# Altium footprint library LED.PCBLIB: 68 footprints (part 4 of 5)
Each footprint in its own frame and in the unit in brackets; x right, y up, seen from the top. Pads: shape width x height; smd on the part's side, far side on the other; paste and mask are expansions set on the pad; w line width, h text height; cw(c..) or ccw(c..) is an arc to the next point about the centre after c.
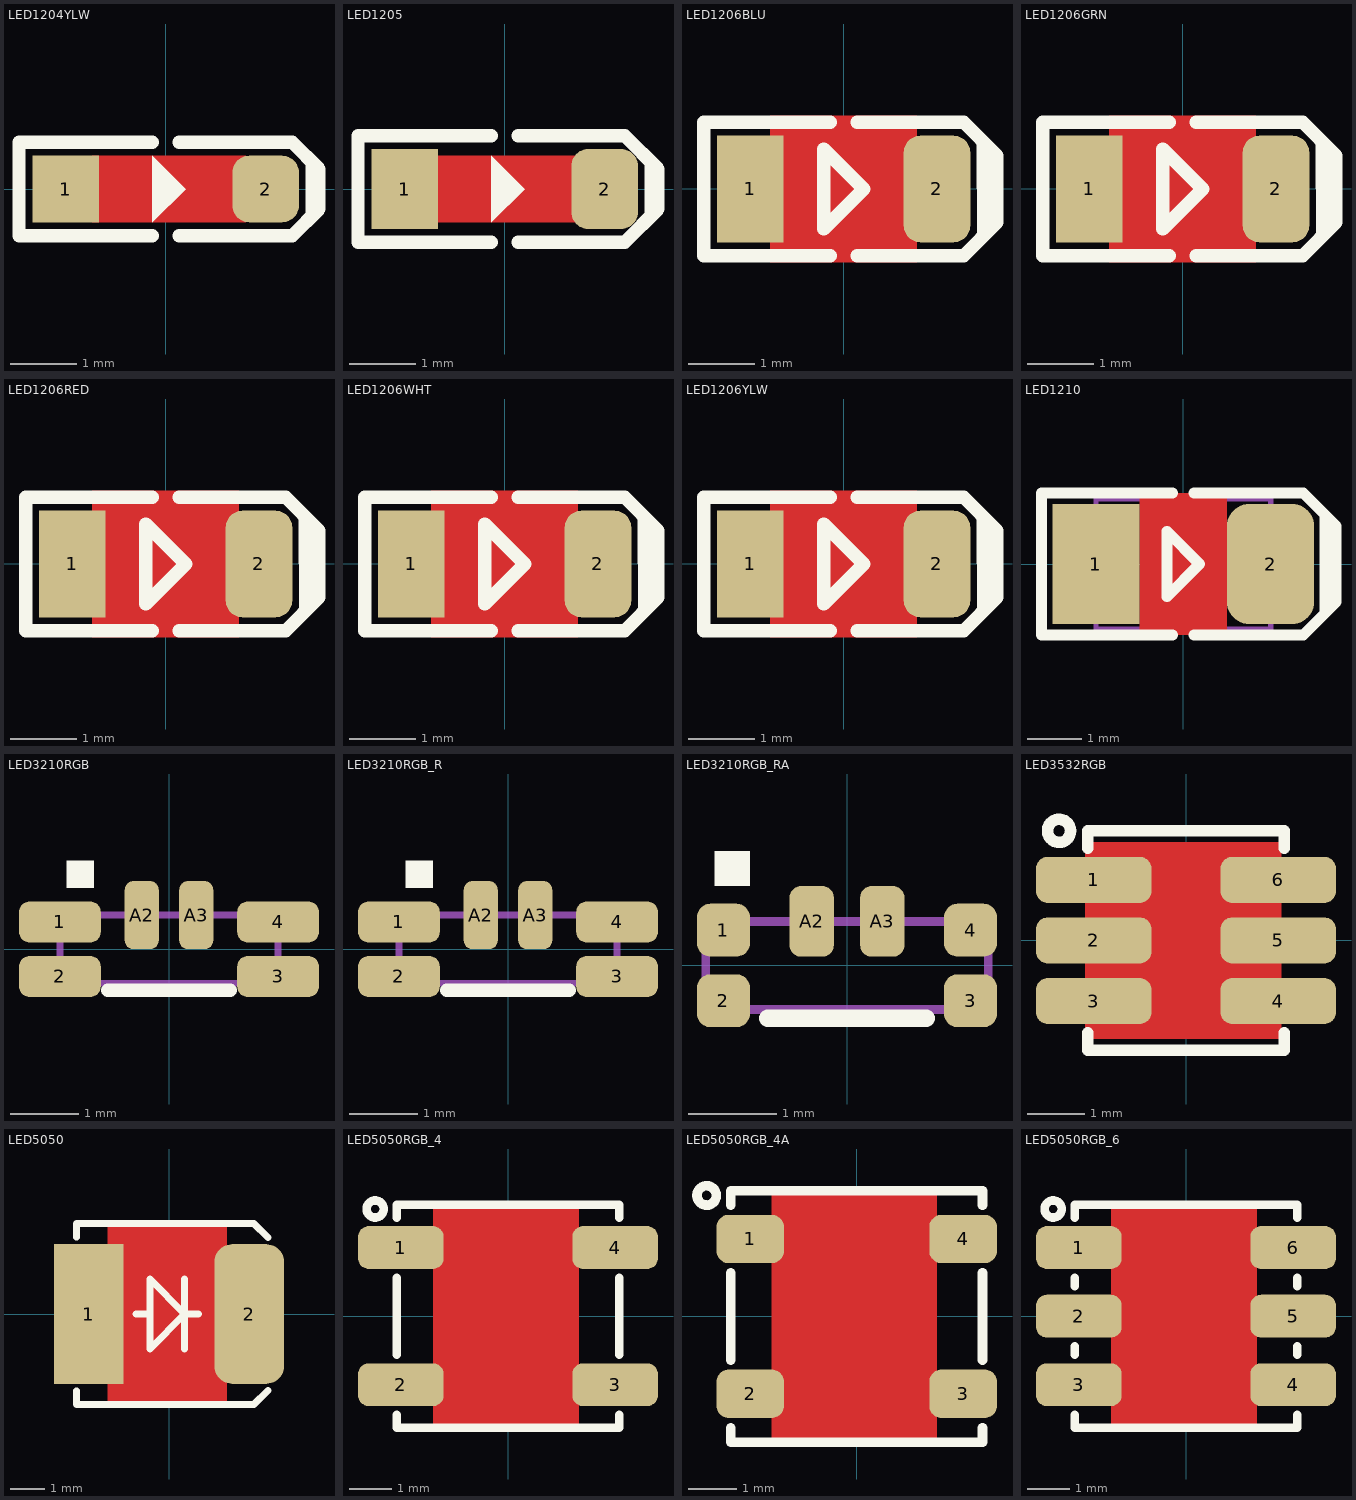
[diagram p3: the footprints below, top view; thin cyan lines are the x and y axes]

## LED1204YLW [mm] "LED, 1204, YELLOW, 3.0X1.0X1.9mm"
pads (2):
  rect 1x1 smd mask+0.075: 1(-1.5,0)
  rrect50% 1x1 smd mask+0.075: 2(1.5,0)
TopLayer:
  pour cut-out: -1.1,0.5 -1.1,-0.5 1.2,-0.5 1.2,0.5
TopOverlay:
  region: 2.1,0.6 2.1,-0.6 2.3,-0.4 2.3,0.4
  region: -0.2,0.5 0.3,0 -0.2,-0.5
  lines w0.2: -0.2,-0.7 -2.2,-0.7 -2.2,0.7 -0.2,0.7 ; 0.2,-0.7 1.9,-0.7 2.3,-0.3 2.3,0.3 1.9,0.7 0.2,0.7
3D body: height 1.9, standoff 0.9, extent -1,-0.5 1,0.5
3D body: height 0.9, standoff 0, extent -1.1,-0.5 1.1,0.5
3D body: height 0.9, standoff 0, extent -1.5,-0.5 -1.1,0.5
3D body: height 0.9, standoff 0, extent 1.1,-0.5 1.5,0.5

## LED1205 [mm] "LED, 1205, YELLOW, 3.2X1.2X1.1mm"
height 1.1
pads (2):
  rect 1x1.2 smd mask+0.075: 1(-1.5,0)
  rrect50% 1x1.2 smd mask+0.075: 2(1.5,0)
TopLayer:
  pour cut-out: -1.1,0.5 -1.1,-0.5 1.2,-0.5 1.2,0.5
TopOverlay:
  region: -0.2,0.5 0.3,0 -0.2,-0.5
  region: 2.1,0.6 2.1,-0.6 2.3,-0.4 2.3,0.4
  lines w0.2: -0.2,-0.8 -2.2,-0.8 -2.2,0.8 -0.2,0.8 ; 0.2,-0.8 1.8,-0.8 2.3,-0.3 2.3,0.3 1.8,0.8 0.2,0.8
3D body "WL-SMRD-1205 (rev1).stp": height 1.1, standoff 0, extent -1.6,-0.6 1.6,0.6

## LED1206BLU [mm] "LED, 1206, BLUE"
pads (2):
  rect 1x1.6 smd paste-0.2 mask+0.075: 1(-1.4,0)
  rrect50% 1x1.6 smd paste-0.2 mask+0.075: 2(1.4,0)
TopLayer:
  pour cut-out: -1.1,1.1 -1.1,-1.1 1.1,-1.1 1.1,1.1
TopOverlay:
  region: 2,0.7 2,-0.7 2.3,-0.4 2.3,0.4
  lines w0.2: -0.2,-1 -2.1,-1 -2.1,1 -0.2,1 ; 0.2,-1 1.8,-1 2.3,-0.5 2.3,0.5 1.8,1 0.2,1 ; -0.3,-0.6 0.3,0 -0.3,0.6 -0.3,-0.6
3D body "User Library-Wurth Elektronik WL-SMCW 1206 (3216) LED Lens (Separate Body).step": height 0.68, standoff 0.28, extent -1,-0.8 1,0.8
3D body "User Library-Wurth Elektronik WL-SMCW 1206 (3216) LED Base (Separate Lens).step": height 0.62, standoff 0, extent -1.6,-0.8 1.6,0.8

## LED1206GRN [mm] "LED, 1206, GREEN"
pads (2):
  rect 1x1.6 smd paste-0.2 mask+0.075: 1(-1.4,0)
  rrect50% 1x1.6 smd paste-0.2 mask+0.075: 2(1.4,0)
TopLayer:
  pour cut-out: -1.1,1.1 -1.1,-1.1 1.1,-1.1 1.1,1.1
TopOverlay:
  region: 2,0.7 2,-0.7 2.3,-0.4 2.3,0.4
  lines w0.2: -0.2,-1 -2.1,-1 -2.1,1 -0.2,1 ; 0.2,-1 1.8,-1 2.3,-0.5 2.3,0.5 1.8,1 0.2,1 ; -0.3,-0.6 0.3,0 -0.3,0.6 -0.3,-0.6
3D body "User Library-Wurth Elektronik WL-SMCW 1206 (3216) LED Lens (Separate Body).step": height 0.68, standoff 0.28, extent -1,-0.8 1,0.8
3D body "User Library-Wurth Elektronik WL-SMCW 1206 (3216) LED Base (Separate Lens).step": height 0.62, standoff 0, extent -1.6,-0.8 1.6,0.8

## LED1206RED [mm] "LED, 1206, RED"
pads (2):
  rect 1x1.6 smd paste-0.2 mask+0.075: 1(-1.4,0)
  rrect50% 1x1.6 smd paste-0.2 mask+0.075: 2(1.4,0)
TopLayer:
  pour cut-out: -1.1,1.1 -1.1,-1.1 1.1,-1.1 1.1,1.1
TopOverlay:
  region: 2,0.7 2,-0.7 2.3,-0.4 2.3,0.4
  lines w0.2: -0.2,-1 -2.1,-1 -2.1,1 -0.2,1 ; 0.2,-1 1.8,-1 2.3,-0.5 2.3,0.5 1.8,1 0.2,1 ; -0.3,-0.6 -0.3,0.6 0.3,0 -0.3,-0.6
3D body "User Library-Wurth Elektronik WL-SMCW 1206 (3216) LED Base (Separate Lens).step": height 0.62, standoff 0, extent -1.6,-0.8 1.6,0.8
3D body "User Library-Wurth Elektronik WL-SMCW 1206 (3216) LED Lens (Separate Body).step": height 0.68, standoff 0.28, extent -1,-0.8 1,0.8

## LED1206WHT [mm] "LED, 1206, WHITE"
pads (2):
  rect 1x1.6 smd paste-0.2 mask+0.075: 1(-1.4,0)
  rrect50% 1x1.6 smd paste-0.2 mask+0.075: 2(1.4,0)
TopLayer:
  pour cut-out: -1.1,1.1 -1.1,-1.1 1.1,-1.1 1.1,1.1
TopOverlay:
  region: 2,0.7 2,-0.7 2.3,-0.4 2.3,0.4
  lines w0.2: -0.2,-1 -2.1,-1 -2.1,1 -0.2,1 ; 0.2,-1 1.8,-1 2.3,-0.5 2.3,0.5 1.8,1 0.2,1 ; -0.3,-0.6 -0.3,0.6 0.3,0 -0.3,-0.6
3D body "User Library-Wurth Elektronik WL-SMCW 1206 (3216) LED Base (Separate Lens).step": height 0.62, standoff 0, extent -1.6,-0.8 1.6,0.8
3D body "User Library-Wurth Elektronik WL-SMCW 1206 (3216) LED Lens (Separate Body).step": height 0.68, standoff 0.28, extent -1,-0.8 1,0.8

## LED1206YLW [mm] "LED, 1206, YELLOW"
pads (2):
  rect 1x1.6 smd paste-0.2 mask+0.075: 1(-1.4,0)
  rrect50% 1x1.6 smd paste-0.2 mask+0.075: 2(1.4,0)
TopLayer:
  pour cut-out: -1.1,1.1 -1.1,-1.1 1.1,-1.1 1.1,1.1
TopOverlay:
  region: 2,0.7 2,-0.7 2.3,-0.4 2.3,0.4
  lines w0.2: -0.2,-1 -2.1,-1 -2.1,1 -0.2,1 ; 0.2,-1 1.8,-1 2.3,-0.5 2.3,0.5 1.8,1 0.2,1 ; -0.3,-0.6 0.3,0 -0.3,0.6 -0.3,-0.6
3D body "User Library-Wurth Elektronik WL-SMCW 1206 (3216) LED Lens (Separate Body).step": height 0.68, standoff 0.28, extent -1,-0.8 1,0.8
3D body "User Library-Wurth Elektronik WL-SMCW 1206 (3216) LED Base (Separate Lens).step": height 0.62, standoff 0, extent -1.6,-0.8 1.6,0.8

## LED1210 [mm] "LED, 1210, 3.2X2.5mm"
pads (2):
  rect 1.6x2.2 smd paste-0.2 mask+0.075: 1(-1.6,0)
  rrect50% 1.6x2.2 smd paste-0.2 mask+0.075: 2(1.6,0)
TopLayer:
  pour cut-out: -0.8,1.3 -0.8,-1.3 0.8,-1.3 0.8,1.3
TopOverlay:
  region: 2.5,1 2.5,-1 2.8,-0.7 2.8,0.7
  lines w0.2: -0.2,-1.3 -2.6,-1.3 -2.6,1.3 -0.2,1.3 ; 0.2,-1.3 2.2,-1.3 2.8,-0.7 2.8,0.7 2.2,1.3 0.2,1.3 ; -0.3,-0.6 -0.3,0.6 0.3,0 -0.3,-0.6
Mechanical13:
  lines w0.1: -1.6,-1.2 1.6,-1.2 1.6,1.2 -1.6,1.2 -1.6,-1.2
3D body "User Library-led_1210.step": height 1.1, standoff -0.05, extent -1.62,-1.35 1.62,1.35

## LED3210RGB [mm] "LED RGB 3.2mmX1.0mm"
height 2.8
pads (6):
  rrect50% 1.2x0.6 smd mask+0.075: 1(-1.6,0.4) 2(-1.6,-0.4) 3(1.6,-0.4) 4(1.6,0.4)
  rrect50% 0.5x1 smd mask+0.075: A2(-0.4,0.5) A3(0.4,0.5)
TopOverlay:
  rectangle: -1.5,0.9 -1.1,1.3
  lines w0.2: -0.9,-0.6 0.9,-0.6
Mechanical13:
  lines w0.1: -1.6,-0.5 1.6,-0.5 1.6,0.5 -1.6,0.5 -1.6,-0.5
3D body "LED3210.step": height 1.5, standoff -0.01, extent -1.6,-0.5 1.6,0.5

## LED3210RGB_R [mm] "LED RGB 3.2mmX1.0mm, Right Angle"
height 2.8
pads (6):
  rrect50% 1.2x0.6 smd mask+0.075: 1(-1.6,0.4) 2(-1.6,-0.4) 3(1.6,-0.4) 4(1.6,0.4)
  rrect50% 0.5x1 smd mask+0.075: A2(-0.4,0.5) A3(0.4,0.5)
TopOverlay:
  rectangle: -1.5,0.9 -1.1,1.3
  lines w0.2: -0.9,-0.6 0.9,-0.6
Mechanical13:
  lines w0.1: -1.6,-0.5 1.6,-0.5 1.6,0.5 -1.6,0.5 -1.6,-0.5
3D body "LED3210.step": height 1, standoff 0, extent -1.6,0.39 1.6,1.9

## LED3210RGB_RA [mm] "LED RGB 3.2mmX1.0mm"
height 2.8
pads (6):
  rrect50% 0.6x0.6 smd mask+0.075: 1(-1.4,0.4) 2(-1.4,-0.4) 3(1.4,-0.4) 4(1.4,0.4)
  rrect50% 0.5x0.8 smd mask+0.075: A2(-0.4,0.5) A3(0.4,0.5)
TopOverlay:
  rectangle: -1.5,0.9 -1.1,1.3
  lines w0.2: -0.9,-0.6 0.9,-0.6
Mechanical1:
  lines w0.1: -1.6,-0.5 1.6,-0.5 1.6,0.5 -1.6,0.5 -1.6,-0.5
3D body "LED3210.step": height 1, standoff 0, extent -1.6,0.39 1.6,1.9

## LED3532RGB [mm] "LED 3.5mmX3.2mm, LRTB G6SG PLLC6"
height 1.6
pads (6):
  rrect50% 2x0.8 smd mask+0.075: 1(-1.6,1.05) 2(-1.6,0) 3(-1.6,-1.05) 4(1.6,-1.05) 5(1.6,0) 6(1.6,1.05)
TopLayer:
  pour cut-out: -1.75,1.7 1.65,1.7 1.65,-1.7 -1.75,-1.7
TopOverlay:
  circle w0.2: c-2.2,1.9 r0.2
  lines w0.2: -1.7,-1.6 -1.7,-1.9 1.7,-1.9 1.7,-1.6 ; -1.7,1.6 -1.7,1.9 1.7,1.9 1.7,1.6
3D body "User Library-LED_RGB_Osram_LRTB_G6SG.step": height 2.01, standoff 0, extent -1.8,-1.75 1.8,1.75

## LED5050 [mm] "LED 5mmX5mm, PLLC6"
pads (2):
  rect 2x4 smd paste-3 mask+0.1: 1(-2.3,0)
  rrect50% 2x4 smd paste-3 mask+0.1: 2(2.3,0)
TopLayer:
  pour cut-out: -1.75,2.54 1.65,2.54 1.65,-2.54 -1.75,-2.54
TopOverlay:
  lines w0.2: -2.65,-2.2 -2.65,-2.6 2.43,-2.6 2.84,-2.19 ; -2.65,2.2 -2.65,2.6 2.43,2.6 2.84,2.19 ; -0.95,0 -0.55,0 ; 0.45,-1 0.45,1 ; 0.85,0 0.45,0 ; 0.45,0 -0.55,1 -0.55,-1 0.45,0
TopPaste:
  region: 3.1,1.8 1.5,1.8 1.5,1 3.1,1
  region: 3.1,0.4 1.5,0.4 1.5,-0.4 3.1,-0.4
  region: 3.1,-1 1.5,-1 1.5,-1.8 3.1,-1.8
  rectangle: -3.1,-1.8 -1.5,-1
  rectangle: -3.1,-0.4 -1.5,0.4
  rectangle: -3.1,1 -1.5,1.8
3D body "User Library-smd_led_5050.step": height 1.6, standoff 0, extent -2.65,-2.5 2.65,2.5

## LED5050RGB_4 [mm] "LED 5mmX5mm, PLLC6"
pads (4):
  rrect50% 2x1 smd mask+0.1: 1(-2.5,1.6) 2(-2.5,-1.6) 3(2.5,-1.6) 4(2.5,1.6)
TopLayer:
  pour cut-out: -1.75,2.54 1.65,2.54 1.65,-2.54 -1.75,-2.54
TopOverlay:
  circle w0.2: c-3.1,2.5 r0.2
  lines w0.2: -2.6,-2.3 -2.6,-2.6 2.6,-2.6 2.6,-2.3 ; -2.6,-0.9 -2.6,0.9 ; -2.6,2.3 -2.6,2.6 2.6,2.6 2.6,2.3 ; 2.6,-0.9 2.6,0.9
3D body "User Library-ws2812B-1.step": height 1.55, standoff -0.02, extent -2.7,-2.5 2.7,2.5

## LED5050RGB_4A [mm] "LED 5mmX5mm, PLLC6"
pads (4):
  rrect50% 1.4x1 smd mask+0.1: 1(-2.2,1.6) 2(-2.2,-1.6) 3(2.2,-1.6) 4(2.2,1.6)
TopLayer:
  pour cut-out: -1.75,2.54 1.65,2.54 1.65,-2.54 -1.75,-2.54
TopOverlay:
  circle w0.2: c-3.1,2.5 r0.2
  lines w0.2: -2.6,-2.3 -2.6,-2.6 2.6,-2.6 2.6,-2.3 ; -2.6,-0.9 -2.6,0.9 ; -2.6,2.3 -2.6,2.6 2.6,2.6 2.6,2.3 ; 2.6,-0.9 2.6,0.9
3D body "User Library-ws2812B-1.step": height 1.55, standoff -0.02, extent -2.7,-2.5 2.7,2.5

## LED5050RGB_6 [mm] "LED 5mmX5mm, PLLC6"
pads (6):
  rrect50% 2x1 smd mask+0.1: 1(-2.5,1.6) 2(-2.5,0) 3(-2.5,-1.6) 4(2.5,-1.6) 5(2.5,0) 6(2.5,1.6)
TopLayer:
  pour cut-out: -1.75,2.54 1.65,2.54 1.65,-2.54 -1.75,-2.54
TopOverlay:
  circle w0.2: c-3.1,2.5 r0.2
  lines w0.2: -2.6,-2.3 -2.6,-2.6 2.6,-2.6 2.6,-2.3 ; -2.6,-0.9 -2.6,-0.7 ; -2.6,0.7 -2.6,0.9 ; -2.6,2.3 -2.6,2.6 2.6,2.6 2.6,2.3 ; 2.6,-0.9 2.6,-0.7 ; 2.6,0.7 2.6,0.9
3D body "User Library-APA102C_RGB.step": height 1.55, standoff 0, extent -2.75,-2.5 2.75,2.5